# Altium schematic symbol library DAC6573.SchLib: 1 symbol
Pins are listed as number, name and electrical type; pins without a type are passive.

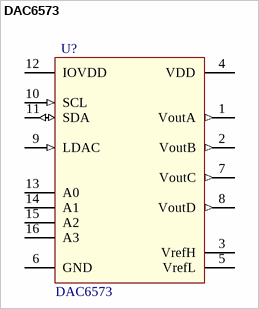
[diagram p0: symbol DAC6573]

## DAC6573
designator U?
10-Bit, Quad DAC with I2C Interface; value: DAC6573
pins: 1 VoutA (out), 2 VoutB (out), 3 VrefH (power), 4 VDD (power), 5 VrefL (power), 6 GND (power), 7 VoutC (out), 8 VoutD (out), 9 LDAC (in), 10 SCL (in), 11 SDA (io), 12 IOVDD (power), 13 A0, 14 A1, 15 A2, 16 A3